# Altium schematic symbol library TPD4E1U06DBVR.SchLib: 1 symbol
Pins are listed as number, name and electrical type; pins without a type are passive.

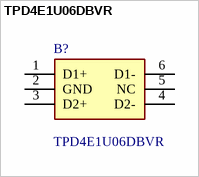
[diagram p0: symbol TPD4E1U06DBVR]

## TPD4E1U06DBVR
designator B?
Quad High Speed ESD Protection SOT-23-6 Texas Instruments TPD4E1U06DBVR Quad Uni-Directional ESD Protection Array, 45W peak, 6-Pin SOT-23; Geometry.Height: 1.45mm; Mouser Part Number: 595-TPD4E1U06DBVR; Mouser Price/Stock: https://www.mouser.co.uk/ProductDetail/Texas-Instruments/TPD4E1U06DBVR?qs=%2FCrDlo5IrVMRcCeY4Dk4aQ%3D%3D; Manufacturer_Name: Texas Instruments; Manufacturer_Part_Number: TPD4E1U06DBVR; Datasheet Link: http://www.ti.com/lit/ds/symlink/tpd4e1u06.pdf
footprint SOT95P280X145-6N
pins: 1 D1+, 2 GND, 3 D2+, 4 D2-, 5 NC, 6 D1-